# Altium footprint library FUSE_0ZCF0075AF2C.PcbLib: 1 footprints
Each footprint in its own frame and in the unit in brackets; x right, y up, seen from the top. Pads: shape width x height; smd on the part's side, far side on the other; paste and mask are expansions set on the pad; w line width, h text height; cw(c..) or ccw(c..) is an arc to the next point about the centre after c.
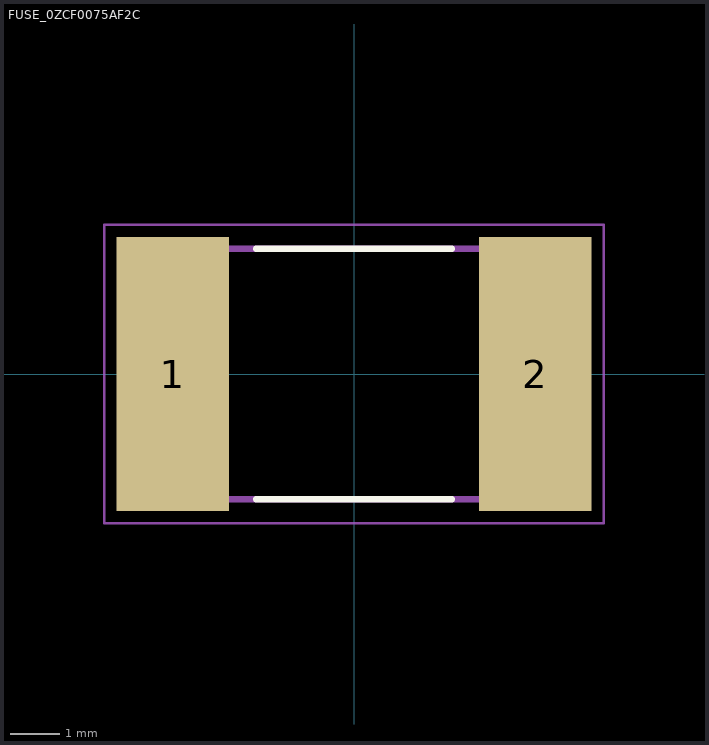
[diagram p0: the footprint, top view; thin cyan lines are the x and y axes]

## FUSE_0ZCF0075AF2C [mm]
height 0.8
pads (2):
  rect 2.3x5.6 smd: 1(-3.7,0) 2(3.7,0)
Top Overlay:
  lines w0.127: -2,-2.56 2,-2.56 ; -2,2.56 2,2.56
Mechanical 13:
  lines w0.127: -3.68,-2.56 -3.68,2.56 3.68,2.56 3.68,-2.56 -3.68,-2.56
Mechanical 15:
  lines w0.05: -5.1,-3.05 5.1,-3.05 5.1,3.05 -5.1,3.05 -5.1,-3.05
3D body "step_temp.STEP": height 0.85, standoff -0.85, extent -3.678,-2.56 3.678,2.56